# EAGLE library part CA3140A (library growbot)
OP AMP
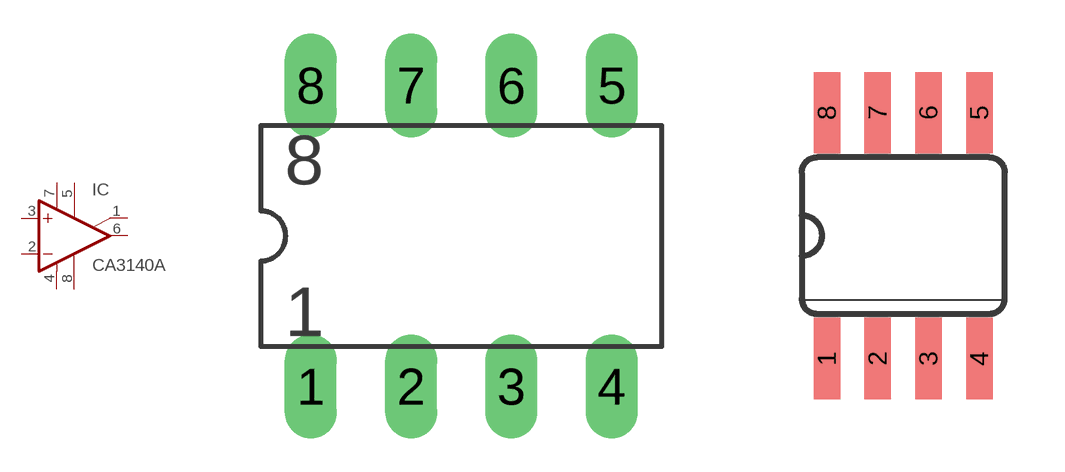
[diagram p16: symbol with the pads of DIL08; footprints DIL08, SO08]

Designator prefix IC

## CA3140A  [DIL08]
1  ON/CMP  pas
2  -IN  in
3  +IN  in
4  V-  pwr
5  ON  pas
6  OUT  out
7  V+  pwr
8  CMP  pas

## CA3140AM  [SO08]
Pads as for DIL08

## CA3140AM_2  [SO08_M]
Pads as for DIL08

## Footprint DIL08 (pad centres in mm)
DIL
drill 0.813 long: 1 -3.81,-3.81; 2 -1.27,-3.81; 3 1.27,-3.81; 4 3.81,-3.81; 5 3.81,3.81; 6 1.27,3.81; 7 -1.27,3.81; 8 -3.81,3.81

## Footprint SO08 (pad centres in mm)
Small Outline Package SOIC 150 mil
smd 0.66 x 2.032: 1 -1.905,-3.073; 2 -0.635,-3.073; 3 0.635,-3.073; 4 1.905,-3.073; 5 1.905,3.073; 6 0.635,3.073; 7 -0.635,3.073; 8 -1.905,3.073

## Footprint SO08_M (pad centres in mm)
smd 0.66 x 2.032: 1 -1.905,-3.073; 5 1.905,3.073; 6 0.635,3.073; 7 -0.635,3.073; 8 -1.905,3.073
smd 0.56 x 2.032: 2 -0.685,-3.073; 4 1.955,-3.073
smd 0.6 x 2.032: 3 0.635,-3.073